# Altium schematic symbol library HEATSINK,TO-220,CUI_HSE-B20254-040H.SchLib: 1 symbol
Pins are listed as number, name and electrical type; pins without a type are passive.

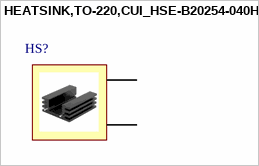
[diagram p0: symbol HEATSINK,TO-220,CUI_HSE-B20254-040H]

## HEATSINK,TO-220,CUI_HSE-B20254-040H
designator HS?
pins: 1, 2